# Altium schematic symbol library SCH - DRIVER - LED - TI LM34923_DGS_10.SchLib: 1 symbol
Pins are listed as number, name and electrical type; pins without a type are passive.

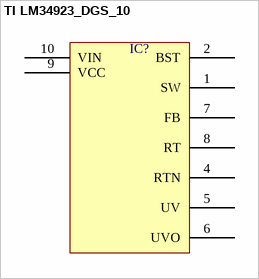
[diagram p0: symbol TI LM34923_DGS_10]

## TI LM34923_DGS_10
designator IC?  (value not drawn)
pins: 1 SW, 2 BST, 4 RTN, 5 UV, 6 UVO, 7 FB, 8 RT, 9 VCC, 10 VIN